# Altium schematic symbol library Controlleres.SchLib: 2 symbols
Pins are listed as number, name and electrical type; pins without a type are passive.

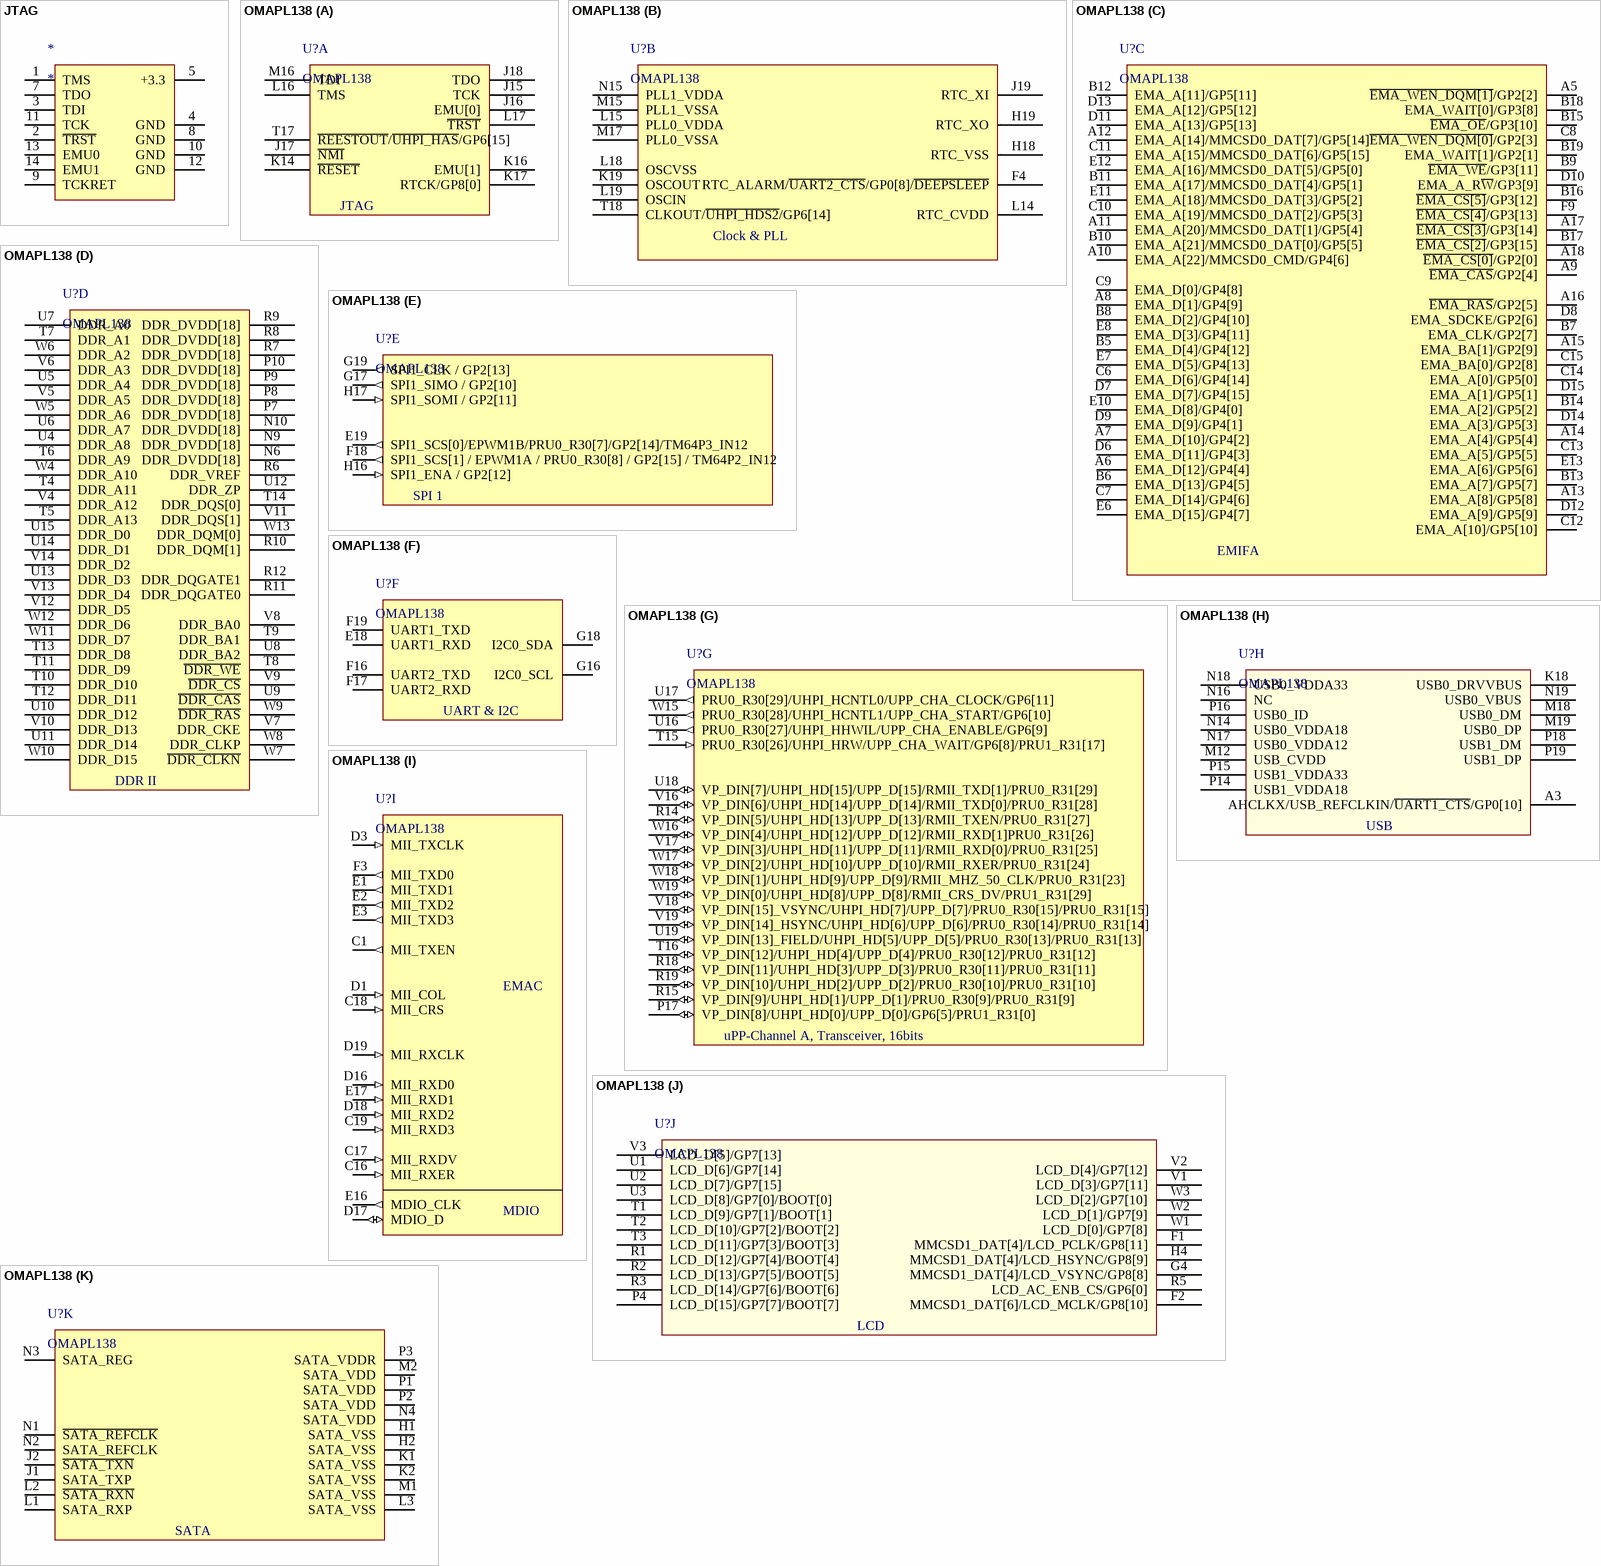
[diagram p0: symbols JTAG to OMAPL138]

## JTAG
designator *
footprint HDR2X7
pins: 1 TMS, 2 ~{TRST}, 3 TDI, 4 GND, 5 +3.3, 7 TDO, 8 GND, 9 TCKRET, 10 GND, 11 TCK, 12 GND, 13 EMU0, 14 EMU1

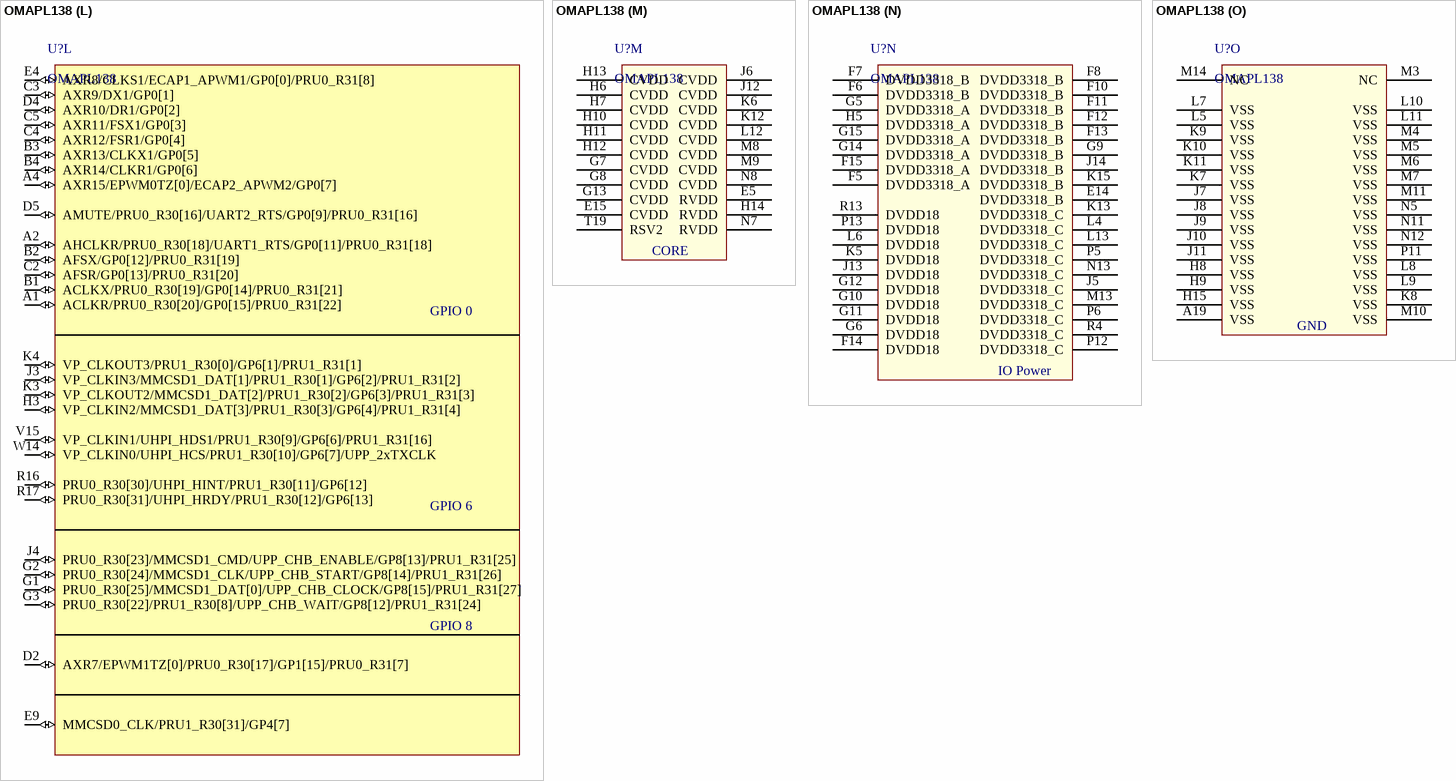
[diagram p1: symbol OMAPL138]

## OMAPL138
designator U?
OMAP-L138 C6-Integra DSP+ARM Processor
footprint BGA361C80P19X19_1600X1600X140 (BGA, 361-Leads, Body 16.0x16.0mm,  Pitch 0.80mm)
part A pins: J15 TCK, J16 EMU[0], J17 ~{NMI}, J18 TDO, K14 ~{RESET}, K16 EMU[1], K17 RTCK/GP8[0], L16 TMS, L17 ~{TRST}, M16 TDI, T17 ~{REESTOUT}/~{UHPI_HAS}/GP6[15]
part B pins: F4 RTC_ALARM/~{UART2_CTS}/GP0[8]/~{DEEPSLEEP}, H18 RTC_VSS, H19 RTC_XO, J19 RTC_XI, K19 OSCOUT, L14 RTC_CVDD, L15 PLL0_VDDA, L18 OSCVSS, L19 OSCIN, M15 PLL1_VSSA, M17 PLL0_VSSA, N15 PLL1_VDDA, T18 CLKOUT/~{UHPI_HDS2}/GP6[14]
part C pins: A5 ~{EMA_WEN_DQM[1]}/GP2[2], A6 EMA_D[12]/GP4[4], A7 EMA_D[10]/GP4[2], A8 EMA_D[1]/GP4[9], A9 ~{EMA_CAS}/GP2[4], A10 EMA_A[22]/MMCSD0_CMD/GP4[6], A11 EMA_A[20]/MMCSD0_DAT[1]/GP5[4], A12 EMA_A[14]/MMCSD0_DAT[7]/GP5[14], A13 EMA_A[8]/GP5[8], A14 EMA_A[4]/GP5[4], A15 EMA_BA[1]/GP2[9], A16 ~{EMA_RAS}/GP2[5], A17 ~{EMA_CS[3]}/GP3[14], A18 ~{EMA_CS[0]}/GP2[0], B5 EMA_D[4]/GP4[12], B6 EMA_D[13]/GP4[5], B7 EMA_CLK/GP2[7], B8 EMA_D[2]/GP4[10], B9 ~{EMA_WE}/GP3[11], B10 EMA_A[21]/MMCSD0_DAT[0]/GP5[5], B11 EMA_A[17]/MMCSD0_DAT[4]/GP5[1], B12 EMA_A[11]/GP5[11], B13 EMA_A[7]/GP5[7], B14 EMA_A[2]/GP5[2], B15 ~{EMA_OE}/GP3[10], B16   ~{EMA_CS[5]}/GP3[12], B17 ~{EMA_CS[2]}/GP3[15], B18 EMA_WAIT[0]/GP3[8], B19 EMA_WAIT[1]/GP2[1], C6 EMA_D[6]/GP4[14], C7 EMA_D[14]/GP4[6], C8 ~{EMA_WEN_DQM[0]}/GP2[3], C9 EMA_D[0]/GP4[8], C10 EMA_A[19]/MMCSD0_DAT[2]/GP5[3], C11 EMA_A[15]/MMCSD0_DAT[6]/GP5[15], C12 EMA_A[10]/GP5[10], C13 EMA_A[5]/GP5[5], C14 EMA_A[0]/GP5[0], C15 EMA_BA[0]/GP2[8], D6 EMA_D[11]/GP4[3], D7 EMA_D[7]/GP4[15], D8 EMA_SDCKE/GP2[6], D9 EMA_D[9]/GP4[1], D10 EMA_A_R~{W}/GP3[9], D11 EMA_A[13]/GP5[13], D12 EMA_A[9]/GP5[9], D13 EMA_A[12]/GP5[12], D14 EMA_A[3]/GP5[3], D15 EMA_A[1]/GP5[1], E6 EMA_D[15]/GP4[7], E7 EMA_D[5]/GP4[13], E8 EMA_D[3]/GP4[11], E10 EMA_D[8]/GP4[0], E11 EMA_A[18]/MMCSD0_DAT[3]/GP5[2], E12 EMA_A[16]/MMCSD0_DAT[5]/GP5[0], E13 EMA_A[6]/GP5[6], F9 ~{EMA_CS[4]}/GP3[13]
part D pins: N6 DDR_DVDD[18], N9 DDR_DVDD[18], N10 DDR_DVDD[18], P7 DDR_DVDD[18], P8 DDR_DVDD[18], P9 DDR_DVDD[18], P10 DDR_DVDD[18], R6 DDR_VREF, R7 DDR_DVDD[18], R8 DDR_DVDD[18], R9 DDR_DVDD[18], R10 DDR_DQM[1], R11 DDR_DQGATE0, R12 DDR_DQGATE1, T4 DDR_A11, T5 DDR_A13, T6 DDR_A9, T7 DDR_A1, T8 ~{DDR_WE}, T9 DDR_BA1, T10 DDR_D10, T11 DDR_D9, T12 DDR_D11, T13 DDR_D8, T14 DDR_DQS[0], U4 DDR_A8, U5 DDR_A4, U6 DDR_A7, U7 DDR_A0, U8 DDR_BA2, U9 ~{DDR_CAS}, U10 DDR_D12, U11 DDR_D14, U12 DDR_ZP, U13 DDR_D3, U14 DDR_D1, U15 DDR_D0, V4 DDR_A12, V5 DDR_A5, V6 DDR_A3, V7 DDR_CKE, V8 DDR_BA0, V9 ~{DDR_CS}, V10 DDR_D13, V11 DDR_DQS[1], V12 DDR_D5, V13 DDR_D4, V14 DDR_D2, W4 DDR_A10, W5 DDR_A6, W6 DDR_A2, W7 ~{DDR_CLKN}, W8 DDR_CLKP, W9 ~{DDR_RAS}, W10 DDR_D15, W11 DDR_D7, W12 DDR_D6, W13 DDR_DQM[0]
part E pins: E19 SPI1_SCS[0]/EPWM1B/PRU0_R30[7]/GP2[14]/TM64P3_IN12 (out), F18 SPI1_SCS[1] / EPWM1A / PRU0_R30[8] / GP2[15] / TM64P2_IN12 (out), G17 SPI1_SIMO / GP2[10] (out), G19 SPI1_CLK / GP2[13] (out), H16 SPI1_ENA / GP2[12] (in), H17 SPI1_SOMI / GP2[11] (in)
part F pins: E18 UART1_RXD, F16 UART2_TXD, F17 UART2_RXD, F19 UART1_TXD, G16 I2C0_SCL, G18 I2C0_SDA
part G pins: P17 VP_DIN[8]/UHPI_HD[0]/UPP_D[0]/GP6[5]/PRU1_R31[0] (io), R14 VP_DIN[5]/UHPI_HD[13]/UPP_D[13]/RMII_TXEN/PRU0_R31[27] (io), R15 VP_DIN[9]/UHPI_HD[1]/UPP_D[1]/PRU0_R30[9]/PRU0_R31[9] (io), R18 VP_DIN[11]/UHPI_HD[3]/UPP_D[3]/PRU0_R30[11]/PRU0_R31[11] (io), R19 VP_DIN[10]/UHPI_HD[2]/UPP_D[2]/PRU0_R30[10]/PRU0_R31[10] (io), T15 PRU0_R30[26]/UHPI_HRW/UPP_CHA_WAIT/GP6[8]/PRU1_R31[17] (in), T16 VP_DIN[12]/UHPI_HD[4]/UPP_D[4]/PRU0_R30[12]/PRU0_R31[12] (io), U16 PRU0_R30[27]/UHPI_HHWIL/UPP_CHA_ENABLE/GP6[9] (out), U17 PRU0_R30[29]/UHPI_HCNTL0/UPP_CHA_CLOCK/GP6[11] (out), U18 VP_DIN[7]/UHPI_HD[15]/UPP_D[15]/RMII_TXD[1]/PRU0_R31[29] (io), U19 VP_DIN[13]_FIELD/UHPI_HD[5]/UPP_D[5]/PRU0_R30[13]/PRU0_R31[13] (io), V16 VP_DIN[6]/UHPI_HD[14]/UPP_D[14]/RMII_TXD[0]/PRU0_R31[28] (io), V17 VP_DIN[3]/UHPI_HD[11]/UPP_D[11]/RMII_RXD[0]/PRU0_R31[25] (io), V18 VP_DIN[15]_VSYNC/UHPI_HD[7]/UPP_D[7]/PRU0_R30[15]/PRU0_R31[15] (io), V19 VP_DIN[14]_HSYNC/UHPI_HD[6]/UPP_D[6]/PRU0_R30[14]/PRU0_R31[14] (io), W15 PRU0_R30[28]/UHPI_HCNTL1/UPP_CHA_START/GP6[10] (out), W16 VP_DIN[4]/UHPI_HD[12]/UPP_D[12]/RMII_RXD[1]PRU0_R31[26] (io), W17 VP_DIN[2]/UHPI_HD[10]/UPP_D[10]/RMII_RXER/PRU0_R31[24] (io), W18 VP_DIN[1]/UHPI_HD[9]/UPP_D[9]/RMII_MHZ_50_CLK/PRU0_R31[23] (io), W19 VP_DIN[0]/UHPI_HD[8]/UPP_D[8]/RMII_CRS_DV/PRU1_R31[29] (io)
part H pins: A3 AHCLKX/USB_REFCLKIN/~{UART1_CTS}/GP0[10], K18 USB0_DRVVBUS, M12 USB_CVDD, M18 USB0_DM, M19 USB0_DP, N14 USB0_VDDA18, N16 NC, N17 USB0_VDDA12, N18 USB0_VDDA33, N19 USB0_VBUS, P14 USB1_VDDA18, P15 USB1_VDDA33, P16 USB0_ID, P18 USB1_DM, P19 USB1_DP
part I pins: C1 MII_TXEN (out), C16 MII_RXER (in), C17 MII_RXDV (in), C18 MII_CRS (in), C19 MII_RXD3 (in), D1 MII_COL (in), D3 MII_TXCLK (in), D16 MII_RXD0 (in), D17 MDIO_D (io), D18 MII_RXD2 (in), D19 MII_RXCLK (in), E1 MII_TXD1 (out), E2 MII_TXD2 (out), E3 MII_TXD3 (out), E16 MDIO_CLK (out), E17 MII_RXD1 (in), F3 MII_TXD0 (out)
part J pins: F1 MMCSD1_DAT[4]/LCD_PCLK/GP8[11], F2 MMCSD1_DAT[6]/LCD_MCLK/GP8[10], G4 MMCSD1_DAT[4]/LCD_VSYNC/GP8[8], H4 MMCSD1_DAT[4]/LCD_HSYNC/GP8[9], P4 LCD_D[15]/GP7[7]/BOOT[7], R1 LCD_D[12]/GP7[4]/BOOT[4], R2 LCD_D[13]/GP7[5]/BOOT[5], R3 LCD_D[14]/GP7[6]/BOOT[6], R5 LCD_AC_ENB_CS/GP6[0], T1 LCD_D[9]/GP7[1]/BOOT[1], T2 LCD_D[10]/GP7[2]/BOOT[2], T3 LCD_D[11]/GP7[3]/BOOT[3], U1 LCD_D[6]/GP7[14], U2 LCD_D[7]/GP7[15], U3 LCD_D[8]/GP7[0]/BOOT[0], V1 LCD_D[3]/GP7[11], V2 LCD_D[4]/GP7[12], V3 LCD_D[5]/GP7[13], W1 LCD_D[0]/GP7[8], W2 LCD_D[1]/GP7[9], W3 LCD_D[2]/GP7[10]
part K pins: H1 SATA_VSS, H2 SATA_VSS, J1 SATA_TXP, J2 ~{SATA_TXN}, K1 SATA_VSS, K2 SATA_VSS, L1 SATA_RXP, L2 ~{SATA_RXN}, L3 SATA_VSS, M1 SATA_VSS, M2 SATA_VDD, N1 ~{SATA_REFCLK}, N2 SATA_REFCLK, N3 SATA_REG, N4 SATA_VDD, P1 SATA_VDD, P2 SATA_VDD, P3 SATA_VDDR
part L pins: A1 ACLKR/PRU0_R30[20]/GP0[15]/PRU0_R31[22] (io), A2 AHCLKR/PRU0_R30[18]/UART1_RTS/GP0[11]/PRU0_R31[18] (io), A4 AXR15/EPWM0TZ[0]/ECAP2_APWM2/GP0[7] (io), B1 ACLKX/PRU0_R30[19]/GP0[14]/PRU0_R31[21] (io), B2 AFSX/GP0[12]/PRU0_R31[19] (io), B3 AXR13/CLKX1/GP0[5] (io), B4 AXR14/CLKR1/GP0[6] (io), C2 AFSR/GP0[13]/PRU0_R31[20] (io), C3 AXR9/DX1/GP0[1] (io), C4 AXR12/FSR1/GP0[4] (io), C5 AXR11/FSX1/GP0[3] (io), D2 AXR7/EPWM1TZ[0]/PRU0_R30[17]/GP1[15]/PRU0_R31[7] (io), D4 AXR10/DR1/GP0[2] (io), D5 AMUTE/PRU0_R30[16]/UART2_RTS/GP0[9]/PRU0_R31[16] (io), E4 AXR8/CLKS1/ECAP1_APWM1/GP0[0]/PRU0_R31[8] (io), E9 MMCSD0_CLK/PRU1_R30[31]/GP4[7] (io), G1 PRU0_R30[25]/MMCSD1_DAT[0]/UPP_CHB_CLOCK/GP8[15]/PRU1_R31[27] (io), G2 PRU0_R30[24]/MMCSD1_CLK/UPP_CHB_START/GP8[14]/PRU1_R31[26] (io), G3 PRU0_R30[22]/PRU1_R30[8]/UPP_CHB_WAIT/GP8[12]/PRU1_R31[24] (io), H3 VP_CLKIN2/MMCSD1_DAT[3]/PRU1_R30[3]/GP6[4]/PRU1_R31[4] (io), J3 VP_CLKIN3/MMCSD1_DAT[1]/PRU1_R30[1]/GP6[2]/PRU1_R31[2] (io), J4 PRU0_R30[23]/MMCSD1_CMD/UPP_CHB_ENABLE/GP8[13]/PRU1_R31[25] (io), K3 VP_CLKOUT2/MMCSD1_DAT[2]/PRU1_R30[2]/GP6[3]/PRU1_R31[3] (io), K4 VP_CLKOUT3/PRU1_R30[0]/GP6[1]/PRU1_R31[1] (io), R16 PRU0_R30[30]/UHPI_HINT/PRU1_R30[11]/GP6[12] (io), R17 PRU0_R30[31]/UHPI_HRDY/PRU1_R30[12]/GP6[13] (io), V15 VP_CLKIN1/UHPI_HDS1/PRU1_R30[9]/GP6[6]/PRU1_R31[16] (io), W14 VP_CLKIN0/UHPI_HCS/PRU1_R30[10]/GP6[7]/UPP_2xTXCLK (io)
part M pins: E5 RVDD, E15 CVDD, G7 CVDD, G8 CVDD, G13 CVDD, H6 CVDD, H7 CVDD, H10 CVDD, H11 CVDD, H12 CVDD, H13 CVDD, H14 RVDD, J6 CVDD, J12 CVDD, K6 CVDD, K12 CVDD, L12 CVDD, M8 CVDD, M9 CVDD, N7 RVDD, N8 CVDD, T19 RSV2
part N pins: E14 DVDD3318_B, F5 DVDD3318_A, F6 DVDD3318_B, F7 DVDD3318_B, F8 DVDD3318_B, F10 DVDD3318_B, F11 DVDD3318_B, F12 DVDD3318_B, F13 DVDD3318_B, F14 DVDD18, F15 DVDD3318_A, G5 DVDD3318_A, G6 DVDD18, G9 DVDD3318_B, G10 DVDD18, G11 DVDD18, G12 DVDD18, G14 DVDD3318_A, G15 DVDD3318_A, H5 DVDD3318_A, J5 DVDD3318_C, J13 DVDD18, J14 DVDD3318_B, K5 DVDD18, K13 DVDD3318_C, K15 DVDD3318_B, L4 DVDD3318_C, L6 DVDD18, L13 DVDD3318_C, M13 DVDD3318_C, N13 DVDD3318_C, P5 DVDD3318_C, P6 DVDD3318_C, P12 DVDD3318_C, P13 DVDD18, R4 DVDD3318_C, R13 DVDD18
part O pins: A19 VSS, H8 VSS, H9 VSS, H15 VSS, J7 VSS, J8 VSS, J9 VSS, J10 VSS, J11 VSS, K7 VSS, K8 VSS, K9 VSS, K10 VSS, K11 VSS, L5 VSS, L7 VSS, L8 VSS, L9 VSS, L10 VSS, L11 VSS, M3 NC, M4 VSS, M5 VSS, M6 VSS, M7 VSS, M10 VSS, M11 VSS, M14 NC, N5 VSS, N11 VSS, N12 VSS, P11 VSS
part A text: JTAG
part B text: Clock & PLL
part C text: EMIFA
part D text: DDR II
part E text: SPI 1
part F text: UART & I2C
part G text: uPP-Channel A, Transceiver, 16bits
part H text: USB
part I text: EMAC; MDIO
part J text: LCD
part K text: SATA
part L text: GPIO 0; GPIO 6; GPIO 8
part M text: CORE
part N text: IO Power
part O text: GND